# Altium footprint library PcbLib_Acura.PcbLib: 137 footprints (part 1 of 9)
Each footprint in its own frame and in the unit in brackets; x right, y up, seen from the top. Pads: shape width x height; smd on the part's side, far side on the other; paste and mask are expansions set on the pad; w line width, h text height; cw(c..) or ccw(c..) is an arc to the next point about the centre after c.
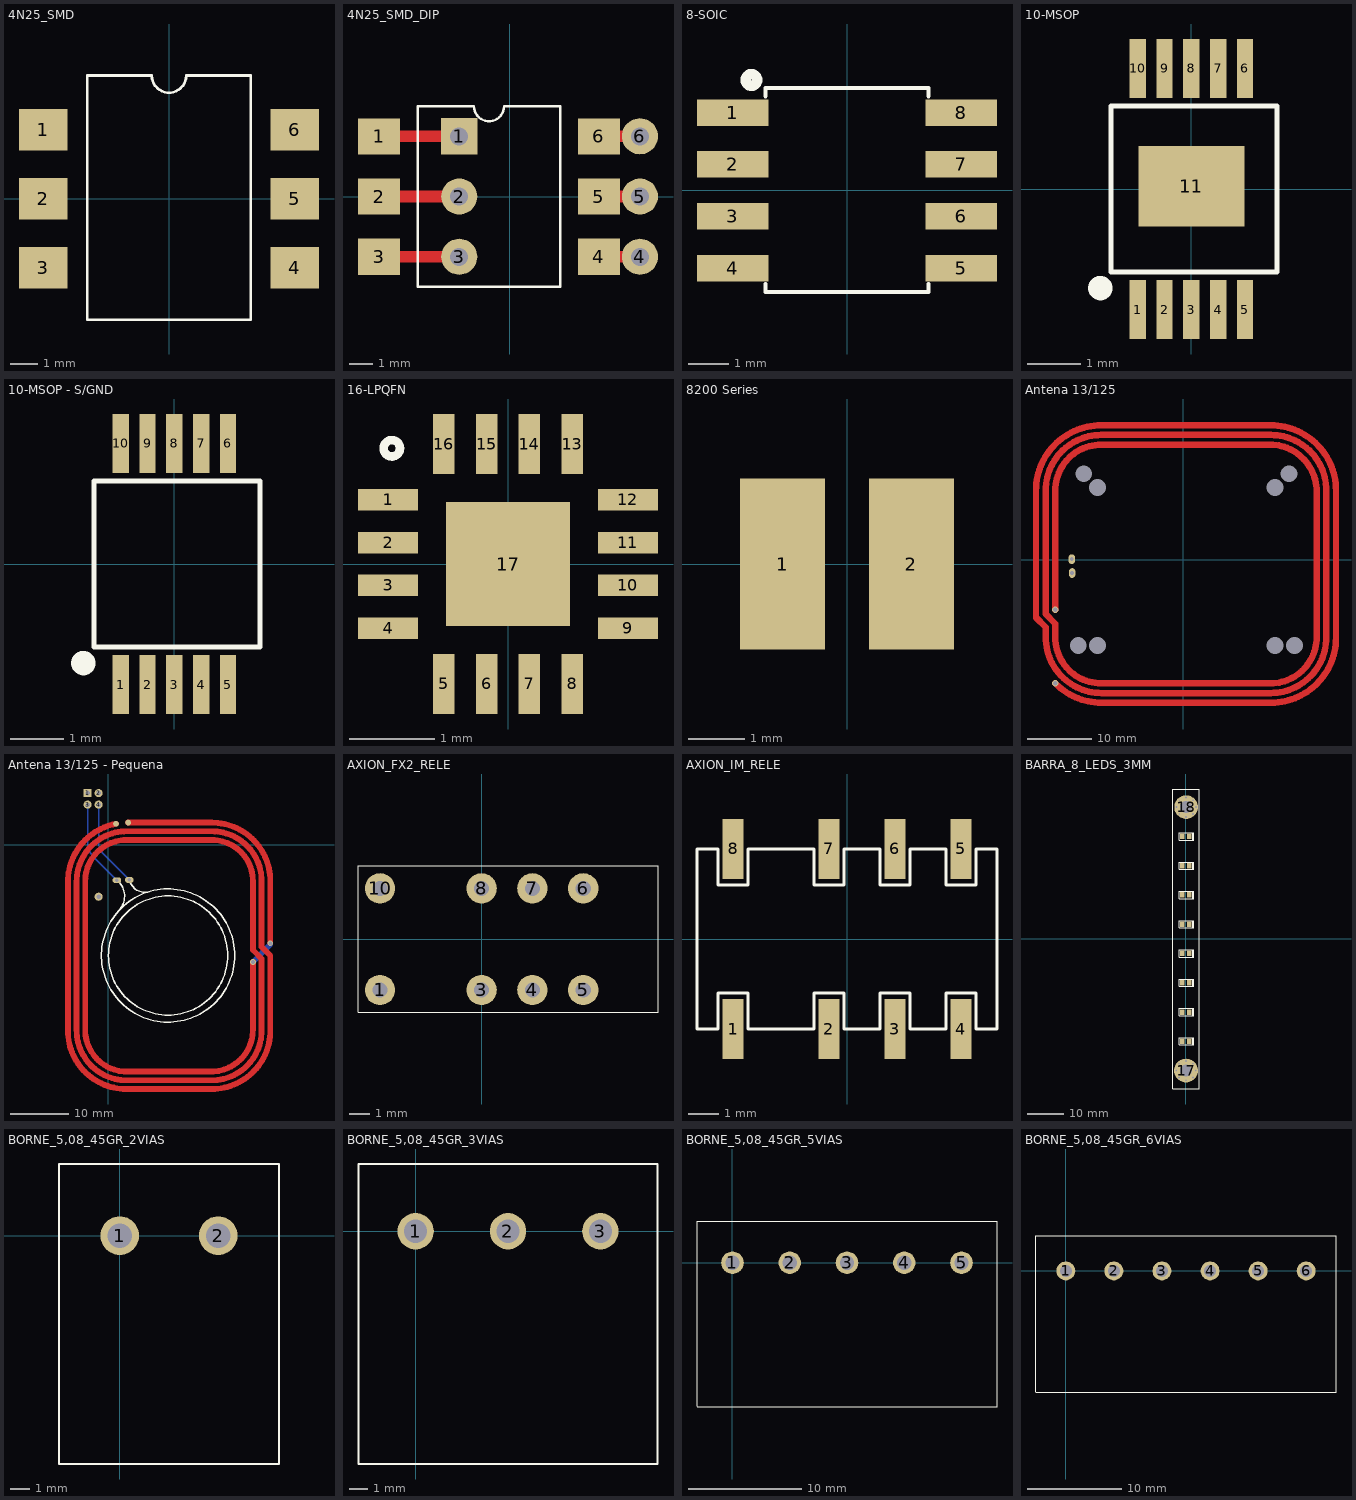
[diagram p0: the footprints below, top view; thin cyan lines are the x and y axes]

## 4N25_SMD [mm]
pads (6):
  rect 1.78x1.52 smd: 1(-4.635,2.54) 2(-4.635,0) 3(-4.635,-2.54) 4(4.635,-2.54) 5(4.635,0) 6(4.635,2.54)
Top Overlay:
  lines w0.1: -3.01,-4.46 3.01,-4.46 3.01,4.54 1.365,4.54 0.635,4.54 cw(c0,4.54) -0.635,4.54 -1.365,4.54 -3.01,4.54 -3.01,-3.81 -3.01,-4.46

## 4N25_SMD_DIP [mil]
pads (12):
  rect 70.08x59.84 smd: 1(-216.5,100) 2(-216.5,0) 3(-216.5,-100) 4(148.46,-100) 5(148.46,0) 6(148.46,100)
  rect 60x60 hole 29.92: 1(-83.5,100)
  round 60 hole 29.92: 2(-83.5,0) 3(-83.5,-100) 4(216.5,-100) 5(216.5,0) 6(216.5,100)
Top Layer:
  lines w19.68: -216.5,-100 -83.5,-100 ; -216.5,0 -83.5,0 ; -216.5,100 -83.5,100 ; 148.46,-100 216.5,-100 ; 148.46,0 216.5,0 ; 148.46,100 216.5,100
Top Overlay:
  lines w3.94: -152.52,-150 -152.52,150 -59.02,150 ccw(c-34.02,150) -9.02,150 84.48,150 84.48,-150 -152.52,-150

## 8-SOIC [mm]
pads (8):
  rect 1.75x0.65 smd: 1(-2.8,1.905) 2(-2.8,0.635) 3(-2.8,-0.635) 4(-2.8,-1.905) 5(2.8,-1.905) 6(2.8,-0.635) 7(2.8,0.635) 8(2.8,1.905)
Top Overlay:
  circle w0.254: c-2.341,2.705 r0.141
  lines w0.1: -2,-2.295 -2,-2.495 2,-2.495 2,-2.295 ; -2,2.305 -2,2.505 2,2.505 2,2.305

## 10-MSOP [mm]
pads (11):
  rect 0.305x1.1 smd: 1(-1,-2.25) 2(-0.5,-2.25) 3(0,-2.25) 4(0.5,-2.25) 5(1,-2.25) 6(1,2.25) 7(0.5,2.25) 8(0,2.25) 9(-0.5,2.25) 10(-1,2.25)
  rect 1.98x1.5 smd: 11(0,0.05)
Top Overlay:
  circle w0.254: c-1.7,-1.85 r0.1
  lines w0.1: -1.5,-1.55 1.6,-1.55 1.6,1.55 -1.5,1.55 -1.5,-1.55

## 10-MSOP - S/GND [mm]
pads (10):
  rect 0.305x1.1 smd: 1(-1,-2.25) 2(-0.5,-2.25) 3(0,-2.25) 4(0.5,-2.25) 5(1,-2.25) 6(1,2.25) 7(0.5,2.25) 8(0,2.25) 9(-0.5,2.25) 10(-1,2.25)
Top Overlay:
  circle w0.254: c-1.7,-1.85 r0.1
  lines w0.1: -1.5,-1.55 -1.5,1.55 1.6,1.55 1.6,-1.55 -1.5,-1.55

## 16-LPQFN [mm] "16-Lead Plastic QFN (3mm × 3mm)"
pads (17):
  rect 0.7x0.25 smd: 1(-1.4,0.75) 2(-1.4,0.25) 3(-1.4,-0.25) 4(-1.4,-0.75) 9(1.4,-0.75) 10(1.4,-0.25) 11(1.4,0.25) 12(1.4,0.75)
  rect 0.25x0.7 smd: 5(-0.75,-1.4) 6(-0.25,-1.4) 7(0.25,-1.4) 8(0.75,-1.4) 13(0.75,1.4) 14(0.25,1.4) 15(-0.25,1.4) 16(-0.75,1.4)
  rect 1.45x1.45 smd: 17(0,0)
Top Overlay:
  circle w0.1: c-1.356,1.35 r0.096

## 8200 Series [mm] "Inductor"
pads (2):
  rect 1.52x3.05 smd: 1(-1.15,0) 2(1.15,0)

## Antena 13/125 [mm]
pads (10):
  oval 1x1.5 hole 0.6: 3(-17.25,0.075) 4(-17.2,-2.075)
  round 2 hole 2.6 unplated: ""(-16.25,-13.325) ""(-15.4,13.325) ""(-13.25,-13.325) ""(-13.25,11.175) ""(14.25,-13.325) ""(14.25,11.175) ""(16.4,13.325) ""(17.25,-13.325)
via -19.8,-19.175 diameter 1 hole 0.7
via -19.8,-7.775 diameter 1 hole 0.7
Top Layer:
  lines w1: -19.8,-19.175 -19.734,-19.241 ccw(c-12.65,-12.156) -12.65,-22.175 1.05,-22.175 13.629,-22.175 ccw(c13.629,-12.104) 23.7,-12.104 23.7,-4.175 23.7,10.725 ccw(c13.6,10.725) 13.6,20.825 8.446,20.825 -11.7,20.825 ; -19.8,-7.775 -19.8,10.725 cw(c-12.7,10.725) -12.7,17.825 -9.8,17.825 ; -11.45,20.825 -12.7,20.825 ccw(c-12.7,10.725) -22.8,10.725 -22.8,-8.975 -21.3,-10.475 -21.3,-12.025 ccw(c-12.65,-12.025) -12.65,-20.675 1.05,-20.675 13.577,-20.675 ccw(c13.577,-12.052) 22.2,-12.052 22.2,-4.175 22.2,10.725 ccw(c13.6,10.725) 13.6,19.325 9.7,19.325 -10.65,19.325 ; -10.4,19.325 -11.45,19.325 -12.7,19.325 ccw(c-12.7,10.725) -21.3,10.725 -21.3,-8.425 -19.8,-9.925 -19.8,-12.075 ccw(c-12.7,-12.075) -12.7,-19.175 -12.65,-19.175 1.05,-19.175 13.531,-19.175 ccw(c13.531,-12.006) 20.7,-12.006 20.7,-4.175 20.7,10.725 ; -10.2,17.825 11,17.825 13.45,17.825 cw(c13.45,10.575) 20.7,10.575

## Antena 13/125 - Pequena [mm]
pads (9):
  rect 1.4x1.4 hole 0.8: 1(-3.6,8.95)
  round 1.4 hole 0.8: 2(-1.7,8.95) 3(-3.6,6.95) 4(-1.7,6.95)
  round 1 smd: 5(1.297,3.642) 6(3.4,3.85)
  round 1.4 hole 0.8 paste+0: ""(-1.7,-8.95)
  oval 1.5x1 hole 0.6 paste+0: ""(1.45,-6.1)
  oval 1.5x1 hole 0.6: ""(3.6,-6.05)
via 27.95,-17 diameter 1 hole 0.7
via 24.95,-20.2 diameter 1 hole 0.7
Top Layer:
  lines w1: -7,-32.079 ccw(c3.071,-32.079) 3.071,-42.15 11,-42.15 17.85,-42.15 ccw(c17.85,-32.05) 27.95,-32.05 27.95,-19.1 26.45,-17.6 ; -7,-31.85 -7,-6.35 cw(c3.14,-6.35) -4.03,0.82 cw(c3.225,-6.435) 1.297,3.642 ; -5.5,-32.027 ccw(c3.123,-32.027) 3.123,-40.65 11,-40.65 17.85,-40.65 ccw(c17.85,-32.05) 26.45,-32.05 26.45,-19.65 24.95,-18.15 24.95,-6.25 ccw(c17.85,-6.25) 17.85,0.85 12.55,0.85 3.1,0.85 ccw(c3.1,-6.25) -4,-6.25 ; -5.5,-32 -5.5,-6.3 cw(c3.15,-6.3) 3.15,2.35 11,2.35 17.85,2.35 cw(c17.85,-6.25) 26.45,-6.25 26.45,-7.5 ; -4,-6.3 -4,-31.981 ccw(c3.169,-31.981) 3.169,-39.15 11,-39.15 17.7,-39.15 ccw(c17.7,-31.9) 24.95,-31.9 24.95,-20.2 ; 3.4,3.85 11,3.85 17.85,3.85 cw(c17.85,-6.25) 27.95,-6.25 27.95,-7.5 27.95,-17 ; 26.45,-17.6 26.45,-7.5 ; 26.45,-17.6 26.45,-7.5
Bottom Layer:
  lines w0.254: -3.6,6.95 -3.6,0.22 ccw(c-0.534,0.22) -2.702,-1.948 1.45,-6.1 ; -1.7,6.95 -1.7,0.52 ccw(c1.366,0.52) -0.802,-1.648 3.6,-6.05
  lines w1: 24.95,-20.2 27.95,-17.2 27.95,-17
Top Overlay:
  circle w0.254: c10.293,-19.1 r11.507
  circle w0.254: c10.293,-19.1 r10.293
  lines w0.254: 1.45,-6.1 cw(c-0.7,-8.85) 2.05,-11 ; 3.6,-6.05 ccw(c6.35,-5.35) 7.05,-8.1

## AXION_FX2_RELE [mil]
pads (8):
  round 60 hole 30: 1(-200,-100) 3(0,-100) 4(100,-100) 5(200,-100) 6(200,100) 7(100,100) 8(0,100) 10(-200,100)
Top Overlay:
  lines w1.97: -243.31,-143.31 347.24,-143.31 347.24,144.09 -243.31,144.09 -243.31,-143.31

## AXION_IM_RELE [mm]
pads (8):
  rect 0.7x2 smd: 1(-3.8,-3) 2(-0.6,-3) 3(1.6,-3) 4(3.8,-3) 5(3.8,3) 6(1.6,3) 7(-0.6,3) 8(-3.8,3)
Top Overlay:
  lines w0.1: -5,-3 -4.3,-3 -4.3,-1.8 -3.3,-1.8 -3.3,-3 -1.1,-3 -1.1,-1.8 -0.1,-1.8 -0.1,-3 1.1,-3 1.1,-1.8 2.1,-1.8 2.1,-3 3.3,-3 3.3,-1.8 4.3,-1.8 4.3,-3 5,-3 5,3 4.3,3 4.3,1.8 3.3,1.8 3.3,3 2.1,3 2.1,1.8 1.1,1.8 1.1,3 -0.1,3 -0.1,1.8 -1.1,1.8 -1.1,3 -3.3,3 -3.3,1.8 -4.3,1.8 -4.3,3 -5,3 -5,-3

## BARRA_8_LEDS_3MM [mm]
pads (18):
  rect 1.3x1.5 smd: 1(-0.95,-28) 2(0.95,-28) 3(-0.95,-20) 4(0.95,-20) 5(-0.95,-12) 6(0.95,-12) 7(-0.95,-4) 8(0.95,-4) 9(-0.95,4) 10(0.95,4) 11(-0.95,12) 12(0.95,12) 13(-0.95,20) 14(0.95,20) 15(-0.95,28) 16(0.95,28)
  round 6.5 hole 3.3: 17(0.05,-36) 18(0.09,36)
via 0.09,33.35 diameter 0.711 hole 0.5
via 0.09,38.65 diameter 0.711 hole 0.5
via -1.784,34.126 diameter 0.711 hole 0.5
via -1.784,37.874 diameter 0.711 hole 0.5
via 1.966,34.126 diameter 0.711 hole 0.5
via 1.966,37.874 diameter 0.711 hole 0.5
via -2.56,36 diameter 0.711 hole 0.5
via 2.74,36 diameter 0.711 hole 0.5
via 0.05,-38.65 diameter 0.711 hole 0.5
via 0.05,-33.35 diameter 0.711 hole 0.5
via -1.824,-37.874 diameter 0.711 hole 0.5
via -1.824,-34.126 diameter 0.711 hole 0.5
via 1.926,-37.874 diameter 0.711 hole 0.5
via 1.926,-34.126 diameter 0.711 hole 0.5
via -2.6,-36 diameter 0.711 hole 0.5
via 2.7,-36 diameter 0.711 hole 0.5
Top Overlay:
  rectangle: 1.85,-29 2.2,-27
  rectangle: 1.85,-21 2.2,-19
  rectangle: 1.85,-13 2.2,-11
  rectangle: 1.85,-5 2.2,-3
  rectangle: 1.85,3 2.2,5
  rectangle: 1.85,11 2.2,13
  rectangle: 1.85,19 2.2,21
  rectangle: 1.85,27 2.2,29
  lines w0.05: -3.55,-41.04 3.65,-41.04 3.65,40.96 -3.55,40.96 -3.55,-41.04
  lines w0.1: 1.85,-29 2.2,-29 2.2,-27 1.85,-27 ; 1.85,-29 1.85,-27 ; 1.85,-29 -1.85,-29 -1.85,-28 -1.85,-27 1.85,-27 ; 1.85,-21 2.2,-21 2.2,-19 1.85,-19 ; 1.85,-21 1.85,-19 ; 1.85,-21 -1.85,-21 -1.85,-20 -1.85,-19 1.85,-19 ; 1.85,-13 2.2,-13 2.2,-11 1.85,-11 ; 1.85,-13 1.85,-11 ; 1.85,-13 -1.85,-13 -1.85,-12 -1.85,-11 1.85,-11 ; 1.85,-5 2.2,-5 2.2,-3 1.85,-3 ; 1.85,-5 1.85,-3 ; 1.85,-5 -1.85,-5 -1.85,-4 -1.85,-3 1.85,-3 ; 1.85,3 2.2,3 2.2,5 1.85,5 ; 1.85,3 1.85,5 ; 1.85,3 -1.85,3 -1.85,4 -1.85,5 1.85,5 ; 1.85,11 2.2,11 2.2,13 1.85,13 ; 1.85,11 1.85,13 ; 1.85,11 -1.85,11 -1.85,12 -1.85,13 1.85,13 ; 1.85,19 2.2,19 2.2,21 1.85,21 ; 1.85,19 1.85,21 ; 1.85,19 -1.85,19 -1.85,20 -1.85,21 1.85,21 ; 1.85,27 2.2,27 2.2,29 1.85,29 ; 1.85,27 1.85,29 ; 1.85,27 -1.85,27 -1.85,28 -1.85,29 1.85,29

## BORNE_5,08_45GR_2VIAS [mm]
pads (2):
  round 2 hole 1.27: 1(0,0) 2(5.08,0)
Top Overlay:
  lines w0.1: -3.15,-11.8 -3.15,0 -3.15,3.65 ; -3.15,3.7 0,3.7 8.23,3.7 8.23,0 8.23,-11.8 0,-11.8 -3.1,-11.8

## BORNE_5,08_45GR_3VIAS [mm]
pads (3):
  round 2 hole 1.27: 1(0,0) 2(5.08,0) 3(10.16,0)
Top Overlay:
  lines w0.1: -3.15,-12.8 13.31,-12.8 ; -3.15,-12.75 -3.15,0 -3.15,3.7 13.31,3.7 ; 13.31,-12.79 13.31,0 13.31,3.69

## BORNE_5,08_45GR_5VIAS [mm]
pads (5):
  round 2 hole 1.27: 1(0,0) 2(5.08,0) 3(10.16,0) 4(15.24,0) 5(20.32,0)
Top Overlay:
  lines w0.1: -3.15,-12.8 23.47,-12.8 ; -3.15,-12.75 -3.15,0 -3.15,3.7 23.47,3.7 ; 23.47,-12.77 23.47,0 23.47,3.67

## BORNE_5,08_45GR_6VIAS [mm]
pads (6):
  round 2 hole 1.27: 1(0,0) 2(5.08,0) 3(10.16,0) 4(15.24,0) 5(20.32,0) 6(25.4,0)
Top Overlay:
  lines w0.1: -3.15,-12.8 28.55,-12.8 28.55,0 28.55,3.65 ; -3.15,-12.75 -3.15,0 -3.15,3.7 28.55,3.7